# Altium footprint library 3013.PcbLib: 3 footprints
Each footprint in its own frame and in the unit in brackets; x right, y up, seen from the top. Pads: shape width x height; smd on the part's side, far side on the other; paste and mask are expansions set on the pad; w line width, h text height; cw(c..) or ccw(c..) is an arc to the next point about the centre after c.
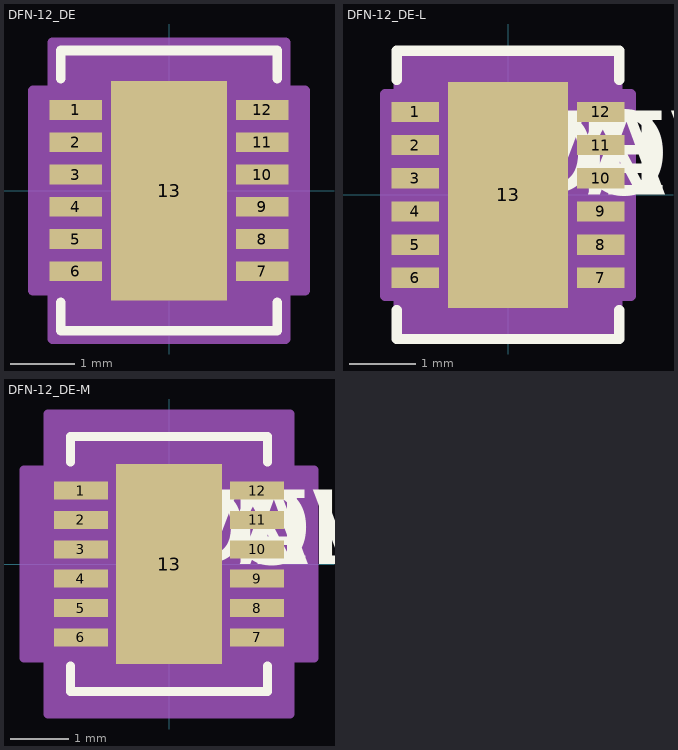
[diagram p0: the footprints below, top view; thin cyan lines are the x and y axes]

## DFN-12_DE [mil]
pads (13):
  rect 32x12 smd: 1(-57,49.21) 2(-57,29.53) 3(-57,9.84) 4(-57,-9.84) 5(-57,-29.53) 6(-57,-49.21) 7(57,-49.21) 8(57,-29.53) 9(57,-9.84) 10(57,9.84) 11(57,29.53) 12(57,49.21)
  rect 71x134 smd paste-66.5: 13(0,0)
Top Overlay:
  lines w6: -66,-68.31 -66,-85.5 66,-85.5 66,-68.31 ; -66,68.31 -66,85.5 66,85.5 66,68.31
Top Paste:
  region: 31.56,63.06 -31.56,63.06 -31.56,3.94 31.56,3.94
  region: 31.56,-3.94 -31.56,-3.94 -31.56,-63.06 31.56,-63.06
Mechanical 13:
  lines w0: -12,80.5 ccw(c0,80.5) 12,80.5
Mechanical 15:
  region: -71,-61.06 -83,-61.06 -83,61.06 -71,61.06 -71,90.5 71,90.5 71,61.06 83,61.06 83,-61.06 71,-61.06 71,-90.5 -71,-90.5
  lines w6: -83,-61.06 -83,61.06 -71,61.06 -71,90.5 71,90.5 71,61.06 83,61.06 83,-61.06 71,-61.06 71,-90.5 -71,-90.5 -71,-61.06 -83,-61.06
3D body "DFN-12_DE.stp": height 32.1, standoff 0, extent -63,-80.5 63,80.5

## DFN-12_DE-L [mil]
pads (13):
  rect 28x12 smd: 1(-55,49.21) 2(-55,29.53) 3(-55,9.84) 4(-55,-9.84) 5(-55,-29.53) 6(-55,-49.21) 7(55,-49.21) 8(55,-29.53) 9(55,-9.84) 10(55,9.84) 11(55,29.53) 12(55,49.21)
  rect 71x134 smd paste-66.5: 13(0,0)
Top Overlay:
  lines w6: -66,-68.31 -66,-85.5 66,-85.5 66,-68.31 ; -66,68.31 -66,85.5 66,85.5 66,68.31
  text "PN" at 0,0 h50
  text "DEV" at 0,0 h50
  text "VAL" at 0,0 h50
  text "TOL" at 0,0 h50
Top Paste:
  region: 31.56,63.06 -31.56,63.06 -31.56,3.94 31.56,3.94
  region: 31.56,-3.94 -31.56,-3.94 -31.56,-63.06 31.56,-63.06
Mechanical 13:
  lines w0: -12,80.5 ccw(c0,80.5) 12,80.5
  text "RefDes2" at 0,0 h50
Mechanical 15:
  region: -65,-59.86 -73,-59.86 -73,59.86 -65,59.86 -65,84.5 65,84.5 65,59.86 73,59.86 73,-59.86 65,-59.86 65,-84.5 -65,-84.5
  lines w6: -73,-59.86 -73,59.86 -65,59.86 -65,84.5 65,84.5 65,59.86 73,59.86 73,-59.86 65,-59.86 65,-84.5 -65,-84.5 -65,-59.86 -73,-59.86
3D body "DFN-12_DE-L.stp": height 32.1, standoff 0, extent -63,-80.5 63,80.5

## DFN-12_DE-M [mil]
pads (13):
  rect 36x12 smd: 1(-59,49.21) 2(-59,29.53) 3(-59,9.84) 4(-59,-9.84) 5(-59,-29.53) 6(-59,-49.21) 7(59,-49.21) 8(59,-29.53) 9(59,-9.84) 10(59,9.84) 11(59,29.53) 12(59,49.21)
  rect 71x134 smd paste-66.5: 13(0,0)
Top Overlay:
  lines w6: -66,-68.31 -66,-85.5 66,-85.5 66,-68.31 ; -66,68.31 -66,85.5 66,85.5 66,68.31
  text "PN" at 0,0 h50
  text "DEV" at 0,0 h50
  text "VAL" at 0,0 h50
  text "TOL" at 0,0 h50
Top Paste:
  region: 31.56,63.06 -31.56,63.06 -31.56,3.94 31.56,3.94
  region: 31.56,-3.94 -31.56,-3.94 -31.56,-63.06 31.56,-63.06
Mechanical 13:
  lines w0: -12,80.5 ccw(c0,80.5) 12,80.5
  text "RefDes2" at 0,0 h50
Mechanical 15:
  region: -81,-63.06 -97,-63.06 -97,63.06 -81,63.06 -81,100.5 81,100.5 81,63.06 97,63.06 97,-63.06 81,-63.06 81,-100.5 -81,-100.5
  lines w6: -97,-63.06 -97,63.06 -81,63.06 -81,100.5 81,100.5 81,63.06 97,63.06 97,-63.06 81,-63.06 81,-100.5 -81,-100.5 -81,-63.06 -97,-63.06
3D body "DFN-12_DE-M.stp": height 32.1, standoff 0, extent -63,-80.5 63,80.5